# Altium footprint library RPSLib_ElectroMechanical.PcbLib: 54 footprints (part 2 of 4)
Each footprint in its own frame and in the unit in brackets; x right, y up, seen from the top. Pads: shape width x height; smd on the part's side, far side on the other; paste and mask are expansions set on the pad; w line width, h text height; cw(c..) or ccw(c..) is an arc to the next point about the centre after c.
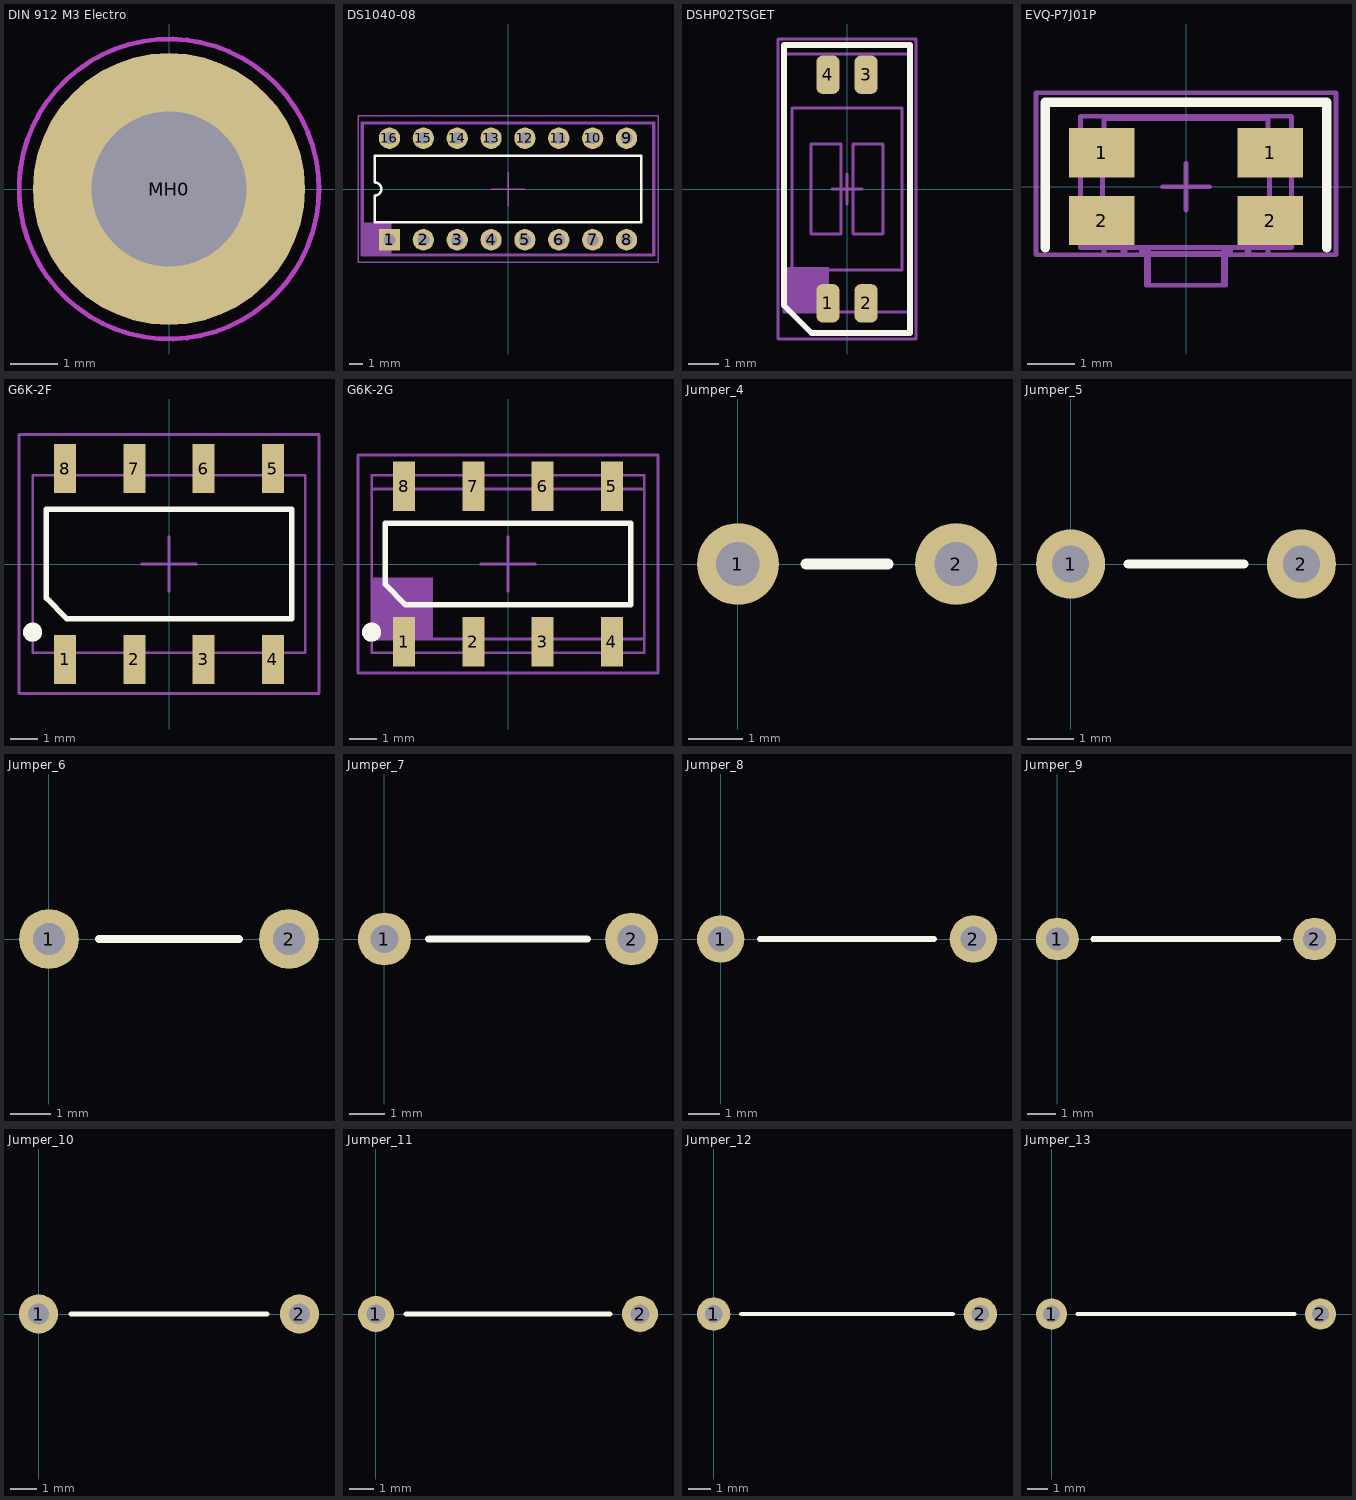
[diagram p1: the footprints below, top view; thin cyan lines are the x and y axes]

## DIN 912 M3 Electro [mm] "Винт DIN 912 цилиндрическая головка внутренний шестигранник M3"
height 2
pads (1):
  round 5.8 hole 3.3 mask+0.07: MH0(0,0)
Keep-Out Layer:
  circle w0.1: c0,0 r3.2
Mechanical 13:
  circle w0.1: c0.021,-0.006 r2.75
Mechanical 15:
  circle w0.1: c0,0 r3.2
  lines w0.1: -2,0 2,0 ; 0,-2 0,2

## DS1040-08 [mm] "DIP switch 8 pos"
height 5.3
pads (16):
  rect 1.6x1.6 hole 0.9 mask+0.07: 1(-8.89,-3.81)
  round 1.6 hole 0.9 mask+0.07: 2(-6.35,-3.81) 3(-3.81,-3.81) 4(-1.27,-3.81) 5(1.27,-3.81) 6(3.81,-3.81) 7(6.35,-3.81) 8(8.89,-3.81) 9(8.89,3.81) 10(6.35,3.81) 11(3.81,3.81) 12(1.27,3.81) 13(-1.27,3.81) 14(-3.81,3.81) 15(-6.35,3.81) 16(-8.89,3.81)
Top Overlay:
  lines w0.2: -10,-2.5 -10,-0.5 ccw(c-10,0) -10,0.5 -10,2.5 10,2.5 10,-2.5 -10,-2.5
Mechanical 1:
  rectangle: -11,-5 -8.75,-2.5
  lines w0.1: -11,-5 11,-5 11,5 -11,5 -11,-5
  text ".Designator" at -1.126,-0.113 h0.5
Mechanical 13:
  lines w0.2: -10.89,-4.95 10.89,-4.95 10.89,4.95 -10.89,4.95 -10.89,-4.95
Mechanical 15:
  lines w0.1: -1.27,0 1.27,0 ; 0,-1.27 0,1.27 ; -11.25,-5.5 11.25,-5.5 11.25,5.5 -11.25,5.5 -11.25,-5.5
3D body "DS1040-08RN_norm.stp": height 6.8, standoff -3.85, extent -10.89,-4.95 10.89,4.95

## DSHP02TSGET [mm] "2 pos DIP Switch"
height 2.3
pads (4):
  rrect50% 0.76x1.27 smd mask+0.07: 1(-0.635,-3.81) 2(0.635,-3.81) 3(0.635,3.81) 4(-0.635,3.81)
Top Overlay:
  lines w0.2: -2.1,-3.883 -2.1,4.8 2.1,4.8 2.1,-4.8 -1.183,-4.8 -2.1,-3.883
Mechanical 1:
  rectangle: -2.1,-4.1 -0.6,-2.6
  lines w0.1: -2.1,-4.1 2.1,-4.1 2.1,4.5 -2.1,4.5 -2.1,-4.1
  text ".Designator" at -1.126,-0.113 h0.5
Mechanical 13:
  lines w0.1: -1.829,-2.7 1.841,-2.7 1.841,2.7 -1.829,2.7 -1.829,-2.7 ; -1.2,-1.5 -0.2,-1.5 -0.2,1.5 -1.2,1.5 -1.2,-1.5 ; 0.2,-1.5 0.2,1.5 1.2,1.5 1.2,-1.5 0.2,-1.5
Mechanical 15:
  lines w0.1: -0.5,0 0.5,0 ; 0,-0.5 0,0.5 ; -2.3,-5 -2.3,5 2.3,5 2.3,-5 -2.3,-5
3D body "DSHP02TSGET.stp": height 2.35, standoff 0, extent -1.829,-4.06 1.841,4.06

## EVQ-P7J01P [mm] "Tactile switch"
height 1.35
pads (4):
  rect 1.4x1.05 smd: 1(-1.8,0.725) 1(1.8,0.725) 2(-1.8,-0.725) 2(1.8,-0.725)
Top Overlay:
  lines w0.2: -3,-1.3 -3,1.8 3,1.8 3,-1.3
Mechanical 1:
  lines w0.1: -0.8,-1.3 -0.8,-2.1 0.8,-2.1 0.8,-1.3 ; -0.8,-1.3 -2.25,-1.3 -2.25,1.5 2.25,1.5 2.25,-1.3 0.8,-1.3 ; -0.8,-1.3 0.8,-1.3
  text ".Designator" at -1.126,-0.113 h0.5
Mechanical 13:
  lines w0.1: -1.78,-0.43 -2.1,-0.43 -2.1,-0.45 cw(c-2.2,-0.45) -2.2,-0.55 -2.35,-0.55 -2.35,-1.05 -1.75,-1.05 -1.75,-0.45 -1.78,-0.45 -1.78,0.45 -1.75,0.45 -1.75,1.05 -2.35,1.05 -2.35,0.55 -2.2,0.55 cw(c-2.2,0.45) -2.1,0.45 -2.1,0.43 -1.78,0.43 ; -1.75,-0.475 -1.75,-1.3 -1.75,-1.45 -1.35,-1.45 -1.35,-1.3 -1.3,-1.3 -1.3,-1.45 -0.95,-1.45 -0.95,-1.3 -0.85,-1.3 -0.85,-1.55 -0.85,-2.1 -0.25,-2.1 ; -1.75,0.475 -1.75,1.3 -1.75,1.45 -1.35,1.45 ; -1.7,1.45 -1.3,1.45 0,1.45 1.3,1.45 1.7,1.45 ; -0.85,-1.425 0.85,-1.425 ; -0.2,-2.1 -0.25,-2.1 ; 0.2,-2.1 0.25,-2.1 ; 1.35,1.45 1.75,1.45 1.75,1.3 1.75,0.475 ; 1.75,-0.475 1.75,-1.3 1.75,-1.45 1.35,-1.45 1.35,-1.3 1.3,-1.3 1.3,-1.45 0.95,-1.45 0.95,-1.3 0.85,-1.3 0.85,-1.55 0.85,-2.1 0.25,-2.1 ; 1.78,-0.43 2.1,-0.43 2.1,-0.45 ccw(c2.2,-0.45) 2.2,-0.55 2.35,-0.55 2.35,-1.05 1.75,-1.05 1.75,-0.45 1.78,-0.45 1.78,0.45 1.75,0.45 1.75,1.05 2.35,1.05 2.35,0.55 2.2,0.55 ccw(c2.2,0.45) 2.1,0.45 2.1,0.43 1.78,0.43 ; -0.25,-2.1 0,-2.1 0.25,-2.1
Mechanical 15:
  lines w0.1: -0.5,0 0.5,0 ; 0,-0.5 0,0.5 ; -3.2,-1.45 3.2,-1.45 3.2,2 -3.2,2 -3.2,-1.45
3D body "EVQ-P7J01P.stp": height 1.35, standoff 0, extent -2.35,-2.1 2.35,1.45

## G6K-2F [mm] "G6K Relay"
height 5.2
pads (8):
  rect 0.8x1.8 smd mask+0.07: 1(-3.81,-3.5) 2(-1.27,-3.5) 3(1.27,-3.5) 4(3.81,-3.5) 5(3.81,3.5) 6(1.27,3.5) 7(-1.27,3.5) 8(-3.81,3.5)
Top Overlay:
  circle w0.4: c-5,-2.5 r0.15
  lines w0.2: -4.5,-1.25 -4.5,2 4.5,2 4.5,-2 -3.75,-2 -4.5,-1.25
Mechanical 13:
  lines w0.1: -5,-3.25 5,-3.25 5,3.25 -5,3.25 -5,-3.25
Mechanical 15:
  lines w0.1: -1,0 1,0 ; 0,-1 0,1 ; -5.5,-4.75 5.5,-4.75 5.5,4.75 -5.5,4.75 -5.5,-4.75
3D body "g6k-2f_24dc.stp": height 5.2, standoff 0, extent -5,-3.9 5,3.9

## G6K-2G [mm] "G6K Relay"
height 5.2
pads (8):
  rect 0.8x1.8 smd mask+0.07: 1(-3.81,-2.85) 2(-1.27,-2.85) 3(1.27,-2.85) 4(3.81,-2.85) 5(3.81,2.85) 6(1.27,2.85) 7(-1.27,2.85) 8(-3.81,2.85)
Top Overlay:
  circle w0.4: c-5,-2.5 r0.15
  lines w0.2: -4.5,-0.75 -4.5,1.5 4.5,1.5 4.5,-1.5 -3.75,-1.5 -4.5,-0.75
Mechanical 1:
  rectangle: -5,-2.75 -2.75,-0.5
  lines w0.1: -5,-2.75 -5,2.75 5,2.75 5,-2.75 -5,-2.75
  text ".Designator" at -1.126,-0.113 h0.5
Mechanical 13:
  lines w0.1: -5,-3.25 5,-3.25 5,3.25 -5,3.25 -5,-3.25
Mechanical 15:
  lines w0.1: -1,0 1,0 ; 0,-1 0,1 ; -5.5,-4 5.5,-4 5.5,4 -5.5,4 -5.5,-4
3D body "g6k-2g_5dc.stp": height 5.2, standoff 0, extent -5,-3.26 5,3.26

## Jumper_4 [mm]
height 0.5
pads (2):
  round 1.5 hole 0.8: 1(0,0) 2(4,0)
Top Overlay:
  lines w0.2: 1.25,0 2.75,0

## Jumper_5 [mm]
height 0.5
pads (2):
  round 1.5 hole 0.8: 1(0,0) 2(5,0)
Top Overlay:
  lines w0.2: 1.25,0 3.75,0

## Jumper_6 [mm]
height 0.5
pads (2):
  round 1.5 hole 0.8: 1(0,0) 2(6,0)
Top Overlay:
  lines w0.2: 1.25,0 4.75,0

## Jumper_7 [mm]
height 0.5
pads (2):
  round 1.5 hole 0.8: 1(0,0) 2(7,0)
Top Overlay:
  lines w0.2: 1.25,0 5.75,0

## Jumper_8 [mm]
height 0.5
pads (2):
  round 1.5 hole 0.8: 1(0,0) 2(8,0)
Top Overlay:
  lines w0.2: 1.25,0 6.75,0

## Jumper_9 [mm]
height 0.5
pads (2):
  round 1.5 hole 0.8: 1(0,0) 2(9,0)
Top Overlay:
  lines w0.2: 1.25,0 7.75,0

## Jumper_10 [mm]
height 0.5
pads (2):
  round 1.5 hole 0.8: 1(0,0) 2(10,0)
Top Overlay:
  lines w0.2: 1.25,0 8.75,0

## Jumper_11 [mm]
height 0.5
pads (2):
  round 1.5 hole 0.8: 1(0,0) 2(11,0)
Top Overlay:
  lines w0.2: 1.25,0 9.75,0

## Jumper_12 [mm]
height 0.5
pads (2):
  round 1.5 hole 0.8: 1(0,0) 2(12,0)
Top Overlay:
  lines w0.2: 1.25,0 10.75,0

## Jumper_13 [mm]
height 0.5
pads (2):
  round 1.5 hole 0.8: 1(0,0) 2(13,0)
Top Overlay:
  lines w0.2: 1.25,0 11.75,0